# EAGLE library part ADS1013 (library needed-parts)
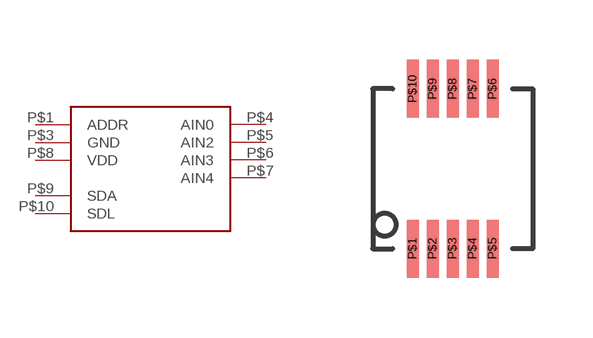
[diagram p0: symbol with the pads of MSOP-10; footprint MSOP-10]

Designator prefix -

## ADS1013  [MSOP-10]
P$1  ADDR
P$3  GND
P$4  AIN0
P$5  AIN2
P$6  AIN3
P$7  AIN4
P$8  VDD
P$9  SDA
P$10  SDL

## Footprint MSOP-10 (pad centres in mm)
smd 0.3 x 1.45: P$1 0,-2; P$2 0.5,-2; P$3 1,-2; P$4 1.5,-2; P$5 2,-2; P$6 2,2; P$7 1.5,2; P$8 1,2; P$9 0.5,2; P$10 0,2